# Altium footprint library TMS320F28335GF.PcbLib: 39 footprints (part 3 of 3)
Each footprint in its own frame and in the unit in brackets; x right, y up, seen from the top. Pads: shape width x height; smd on the part's side, far side on the other; paste and mask are expansions set on the pad; w line width, h text height; cw(c..) or ccw(c..) is an arc to the next point about the centre after c.
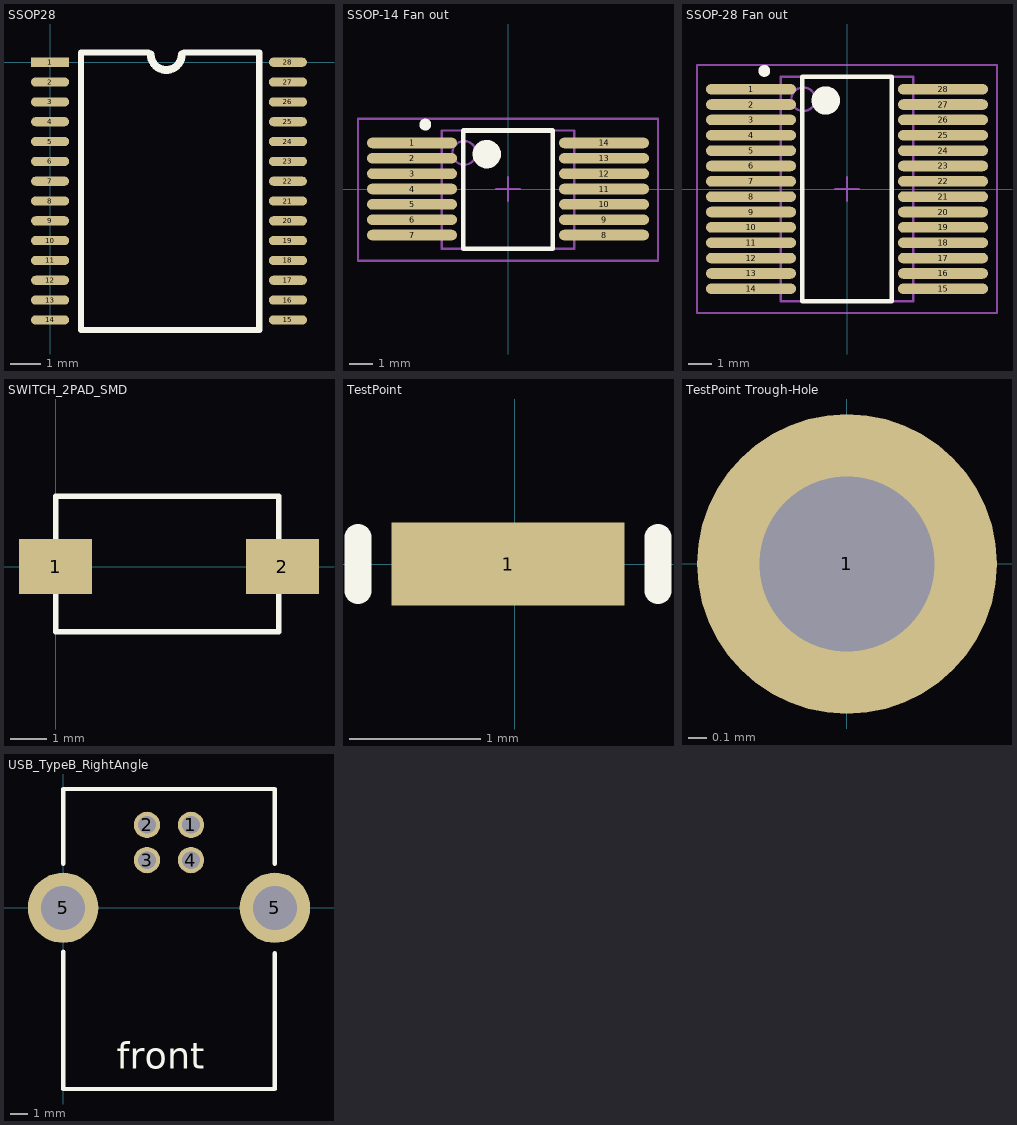
[diagram p2: the footprints below, top view; thin cyan lines are the x and y axes]

## SSOP28 [mm]
pads (28):
  rect 1.25x0.3 smd: 1(0,0)
  oval 1.25x0.3 smd: 2(0,-0.65) 3(0,-1.3) 4(0,-1.95) 5(0,-2.6) 6(0,-3.25) 7(0,-3.9) 8(0,-4.55) 9(0,-5.2) 10(0,-5.85) 11(0,-6.5) 12(0,-7.15) 13(0,-7.8) 14(0,-8.45) 15(7.8,-8.45) 16(7.8,-7.8) 17(7.8,-7.15) 18(7.8,-6.5) 19(7.8,-5.85) 20(7.8,-5.2) 21(7.8,-4.55) 22(7.8,-3.9) 23(7.8,-3.25) 24(7.8,-2.6) 25(7.8,-1.95) 26(7.8,-1.3) 27(7.8,-0.65) 28(7.8,0)
Top Overlay:
  lines w0.2: 3.231,0.325 1.016,0.325 1.016,-8.775 6.858,-8.775 6.858,0.325 4.389,0.325 4.318,0.254
  lines w0.254: 3.302,0.254 ccw(c3.81,0.254) 4.318,0.254

## SSOP-14 Fan out [mm]
pads (14):
  oval 3.81x0.45 smd: 1(-4.064,1.95) 2(-4.064,1.3) 3(-4.064,0.65) 4(-4.064,0) 5(-4.064,-0.65) 6(-4.064,-1.3) 7(-4.064,-1.95) 8(4.064,-1.95) 9(4.064,-1.3) 10(4.064,-0.65) 11(4.064,0) 12(4.064,0.65) 13(4.064,1.3) 14(4.064,1.95)
Top Overlay:
  circle w0.25: c-3.5,2.725 r0.125
  circle w0.6: c-0.9,1.475 r0.3
  lines w0.2: -1.9,-2.529 -1.9,2.475 1.9,2.475 1.9,-2.529 -1.9,-2.529
Mechanical 13:
  circle w0.1: c-1.85,1.525 r0.5
  lines w0.1: -2.8,-2.529 -2.8,2.475 2.8,2.475 2.8,-2.529 -2.8,-2.529
Mechanical 15:
  lines w0.1: -0.492,0 0.508,0 ; 0,-0.5 0,0.5 ; -6.35,-3.037 -6.35,2.975 6.35,2.975 6.35,-3.037 -6.35,-3.037
3D body: height 2, standoff 0.1, extent -2.8,-2.529 2.8,2.475

## SSOP-28 Fan out [mm]
pads (28):
  oval 3.81x0.45 smd: 1(-4.064,4.225) 2(-4.064,3.575) 3(-4.064,2.925) 4(-4.064,2.275) 5(-4.064,1.625) 6(-4.064,0.975) 7(-4.064,0.325) 8(-4.064,-0.325) 9(-4.064,-0.975) 10(-4.064,-1.625) 11(-4.064,-2.275) 12(-4.064,-2.925) 13(-4.064,-3.575) 14(-4.064,-4.225) 15(4.064,-4.225) 16(4.064,-3.575) 17(4.064,-2.925) 18(4.064,-2.275) 19(4.064,-1.625) 20(4.064,-0.975) 21(4.064,-0.325) 22(4.064,0.325) 23(4.064,0.975) 24(4.064,1.625) 25(4.064,2.275) 26(4.064,2.925) 27(4.064,3.575) 28(4.064,4.225)
Top Overlay:
  circle w0.25: c-3.5,5 r0.125
  circle w0.6: c-0.9,3.75 r0.3
  lines w0.2: -1.9,-4.75 -1.9,4.75 1.9,4.75 1.9,-4.75 -1.9,-4.75
Mechanical 13:
  circle w0.1: c-1.85,3.8 r0.5
  lines w0.1: -2.8,-4.75 -2.8,4.75 2.8,4.75 2.8,-4.75 -2.8,-4.75
Mechanical 15:
  lines w0.1: -0.5,0 0.5,0 ; 0,-0.5 0,0.5 ; -6.35,-5.25 -6.35,5.25 6.35,5.25 6.35,-5.25 -6.35,-5.25
3D body: height 2, standoff 0.1, extent -2.8,-4.75 2.8,4.75

## SWITCH_2PAD_SMD [mm]
pads (2):
  rect 2x1.5 smd: 1(0,0) 2(6.2,0)
Top Overlay:
  lines w0.152: 0,-1.778 6.1,-1.778 6.1,1.922 0,1.922 0,-1.778

## TestPoint [mil]
pads (1):
  rect 70x25 smd: 1(-2,0)
Top Overlay:
  lines w8: -47,-8 -47,8 ; 43,-8 43,8

## TestPoint Trough-Hole [mil]
pads (1):
  round 65 hole 38: 1(0,0)

## USB_TypeB_RightAngle [mm]
pads (6):
  round 1.5 hole 1: 1(7.27,4.71) 2(4.77,4.71) 3(4.77,2.71) 4(7.27,2.71)
  round 4 hole 2.5: 5(0,0) 5(12.04,0)
Top Overlay:
  lines w0.254: 0,-2.5 0,-10.3 12.04,-10.3 12.04,-2.59 ; 0,2.5 0,6.75 12.04,6.75 12.04,2.5
  text "front" at 3.048,-9.144 h1.52